# EAGLE library part 750314851 (library Wurth_Power Magnetics_WE-IBTI)
WE-IBTI Isolated Buck Transformers Characteristics Flybuck™ topology Operating Temp: -40°C to +125°C Excellent leakage inductance and interwinding capacitance performance Applications Industrial Programmable Logic Controllers (PLCs) Building automation and process control Isolated interface power: RS-422, RS-485, CAN, I2C, LAN Motor drive control, inverters and industrial automation Isolated low power drivers & regulators, smart e-meters Bias power supplies for gate drives and op-amps <https://www.we-online.com/components/media/o790826v209%20family-MID-IBTI.1673.jpg> Details see: www.we-online.com/en/components/products/WE-IBTI <www.we-online.com/catalog/WE-IBTI/?utm_source=eagle_model&utm_medium=description_link&utm_campaign=eisos_eagle> Created by Ella Wu 2024-06-07 2024 (C) Wurth Elektronik
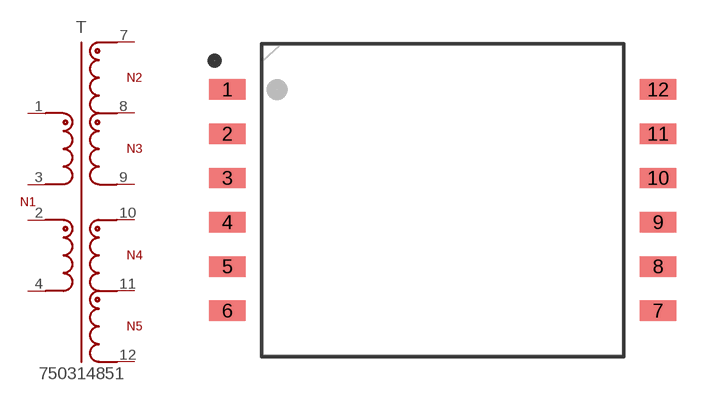
[diagram p22: symbol with the pads of WE-IBTI_EE16/8/5_L17.78W26.9H13.8; footprint WE-IBTI_EE16/8/5_L17.78W26.9H13.8]

Designator prefix T

## 750314851 (DATASHEET-URL: https://www.we-online.com/redexpert/spec/750314851?ae; FSWITCH: 300kHz; HEIGHT: 13.8mm; IOUT1: 100mA; IOUT2: 50mA; IOUT3: 50mA; IOUT4: 50mA; ISAT: 1.8A; L: 68uH; LENGTH: 17.78mm; LS: 1200nH; MOUNT: SMT; N: 1.83:1.67:1:1.67:1; PART-NUMBER: 750314851; SIZE: EE16/8/5; VALUE: 750314851; VBUCK: 10.2V; VIN: 14 - 40 V (DC); VOUT1: 14V; VOUT2: 5V; VOUT3: 14V; VOUT4: 5V; VT: 4000V(AC); WIDTH: 26.1mm)  [WE-IBTI_EE16/8/5_L17.78W26.9H13.8]
1  1  pas
2  2  pas
3  3  pas
4  4  pas
7  7  pas
8  8  pas
9  9  pas
10  10  pas
11  11  pas
12  12  pas

## Footprint WE-IBTI_EE16/8/5_L17.78W26.9H13.8 (pad centres in mm)
WE-IBTI Isolated Buck Transformers Size: EE16/8/5,SMT,12pins LWWH=17.78X26.9X13.8mm
smd 2.1 x 1.17: 1 -12.36,6.35; 2 -12.36,3.81; 3 -12.36,1.27; 4 -12.36,-1.27; 5 -12.36,-3.81; 6 -12.36,-6.35; 7 12.36,-6.35; 8 12.36,-3.81; 9 12.36,-1.27; 10 12.36,1.27; 11 12.36,3.81; 12 12.36,6.35